# Altium integrated library NSC Analog.IntLib: 134 symbols (part 3 of 4)
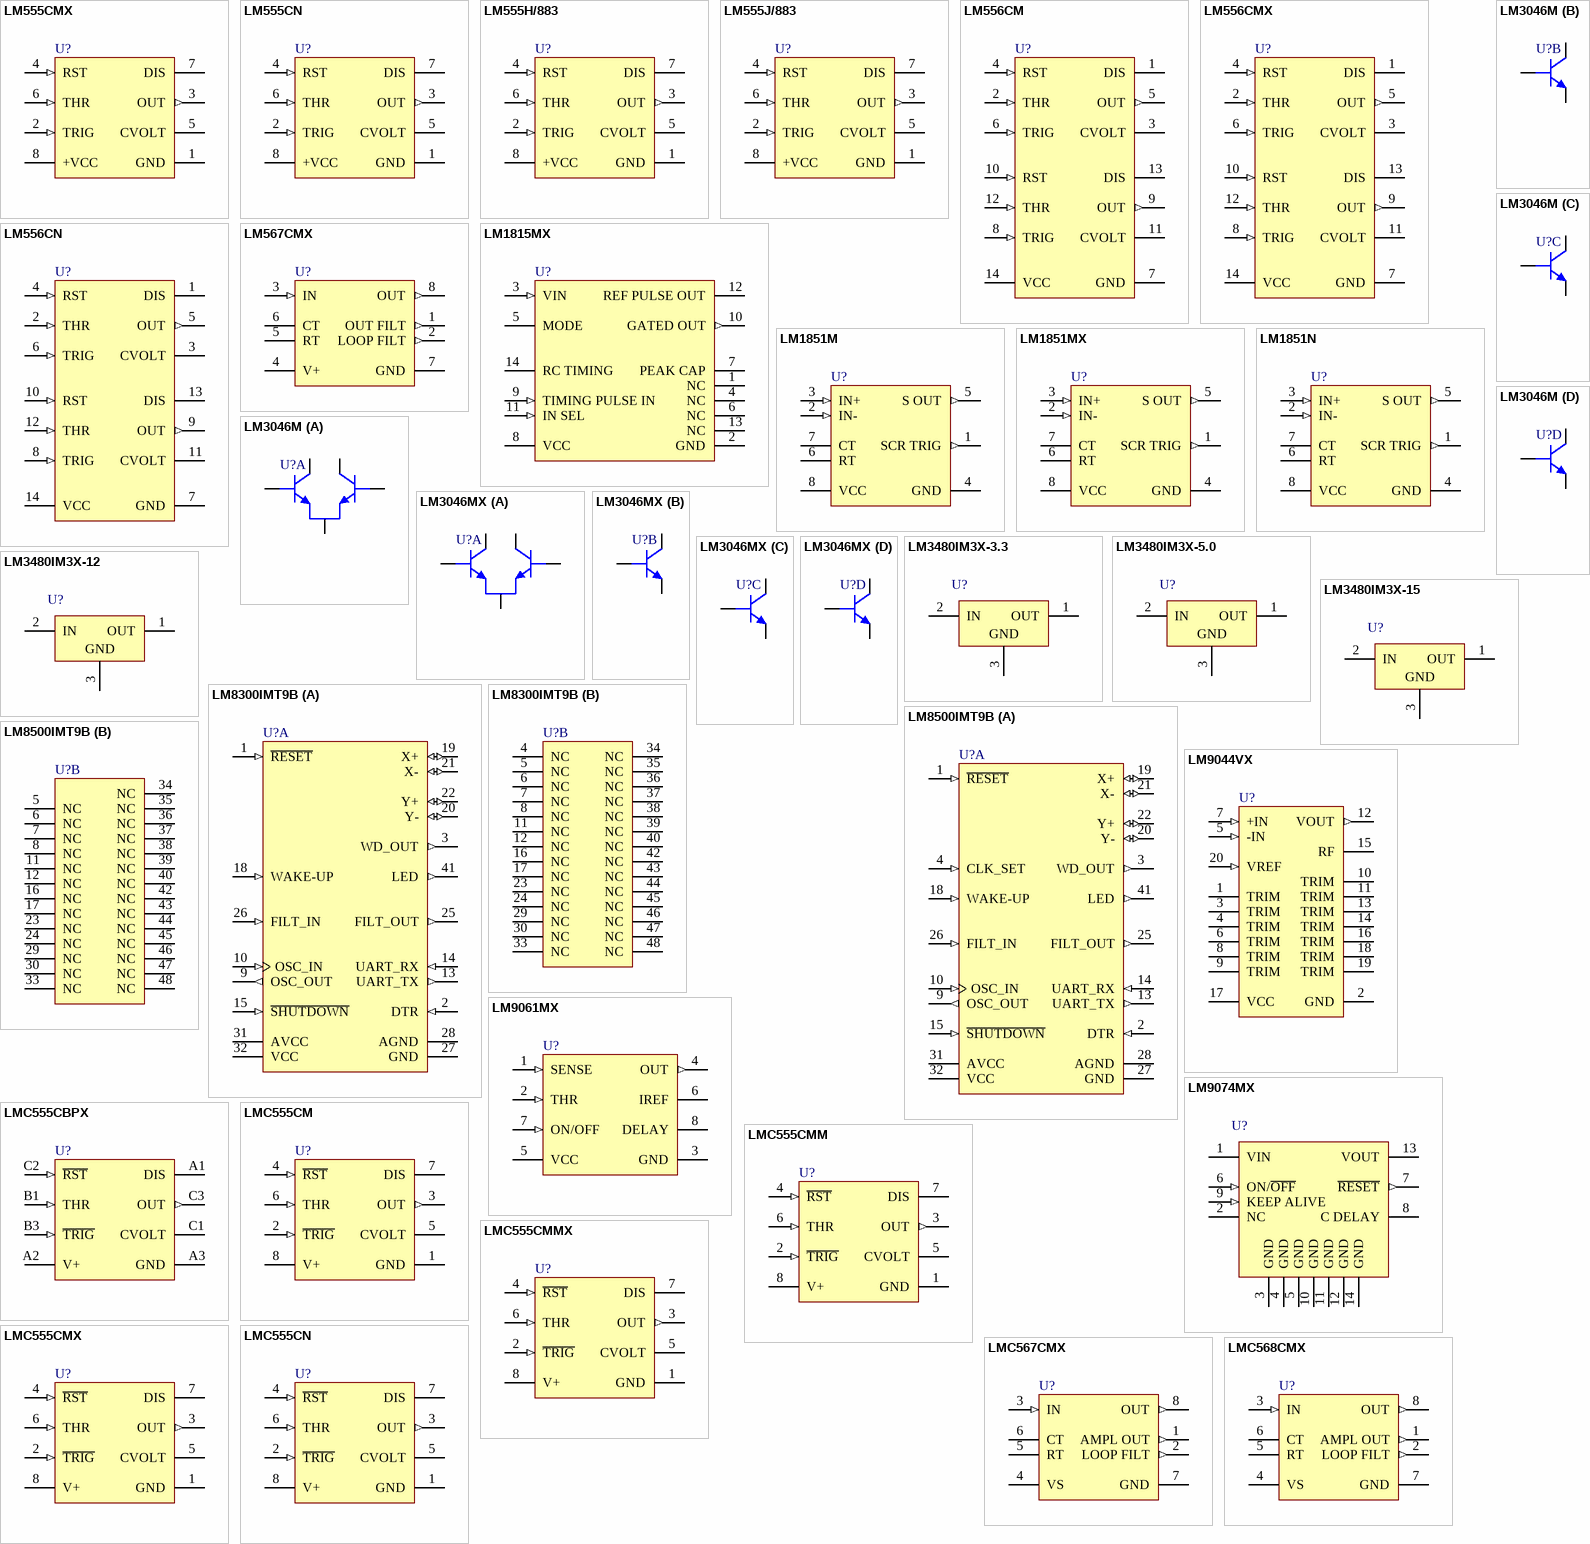
[diagram p8: symbols LM555CMX to LMC568CMX]

## LMC555CM
designator U?
CMOS Timer; PartNumber: LMC555CM; Manufacturer: National Semiconductor; CompType: Analog IC; PackageTopMarking: NSZXTT*LMC*555CM; Published: 4-Dec-2008; DatasheetVersion: May-2006; PackageVersion: revL, Sep-2006; PackageReference: M08A; Publisher: Altium Limited; PackageDescription: SOIC Narrow, 4.9 x 3.9 x 1.45mm, 8 Lead, 1.27mm Pitch; PinCount: 8; DigiKeyPartNumber: LMC555CM-ND; Code_JEDEC: MS-012-AA; Code_IPC: SOIC127P600-8; ComponentLink1Description: LMC555 Datasheet; ComponentLink1URL: http://www.national.com/ds.cgi/LM/LMC555.pdf; ComponentLink2Description: LMC555 Web Page; ComponentLink2URL: http://www.national.com/pf/LM/LMC555.html; ComponentLink3Description: M08A package page; ComponentLink3URL: http://www.national.com/packaging/folders/m08a.html
footprint M08A_N (SOIC, 8-Leads, Body 4.9x3.9mm, Pitch 1.27mm, IPC Medium Density)
footprint M08A_L (SOIC, 8-Leads, Body 4.9x3.9mm, Pitch 1.27mm, IPC High Density)
footprint M08A_M (SOIC, 8-Leads, Body 4.9x3.9mm, Pitch 1.27mm, IPC Low Density)
pins: 1 GND (power), 2 ~{TRIG} (in), 3 OUT (out), 4 ~{RST} (in), 5 CVOLT, 6 THR (in), 7 DIS (oc), 8 V+ (power)

## LMC555CMM
designator U?
CMOS Timer; PartNumber: LMC555CMM; Manufacturer: National Semiconductor; CompType: Analog IC; PackageTopMarking: ZXTT*ZC5; Published: 4-Dec-2008; DatasheetVersion: May-2006; PackageVersion: revF, Apr-2008; PackageReference: MUA08A; Publisher: Altium Limited; PackageDescription: MINI SOIC, .118 x .118 x .034in, 8 Lead, .0256in Pitch; PinCount: 8; DigiKeyPartNumber: LMC555CMMCT-ND; Code_JEDEC: MO-187-AA; ComponentLink1Description: LMC555 Datasheet; ComponentLink1URL: http://www.national.com/ds.cgi/LM/LMC555.pdf; ComponentLink2Description: LMC555 Web Page; ComponentLink2URL: http://www.national.com/pf/LM/LMC555.html; ComponentLink3Description: MUA08A package page; ComponentLink3URL: http://www.national.com/packaging/folders/mua08a.html
footprint MUA08A_N (TSOP, 8-Leads, Body 3x3mm, Pitch 0.65mm, IPC Medium Density)
footprint MUA08A_L (TSOP, 8-Leads, Body 3x3mm, Pitch 0.65mm, IPC High Density)
footprint MUA08A_M (TSOP, 8-Leads, Body 3x3mm, Pitch 0.65mm, IPC Low Density)
pins: 1 GND (power), 2 ~{TRIG} (in), 3 OUT (out), 4 ~{RST} (in), 5 CVOLT, 6 THR (in), 7 DIS (oc), 8 V+ (power)

## LMC555CMMX
designator U?
CMOS Timer; PartNumber: LMC555CMMX; Manufacturer: National Semiconductor; CompType: Analog IC; PackageTopMarking: ZXTT*ZC5; Published: 4-Dec-2008; DatasheetVersion: May-2006; PackageVersion: revF, Apr-2008; PackageReference: MUA08A; Publisher: Altium Limited; PackageDescription: MINI SOIC, .118 x .118 x .034in, 8 Lead, .0256in Pitch; PinCount: 8; DigiKeyPartNumber: LMC555CMMX-ND; Code_JEDEC: MO-187-AA; ComponentLink1Description: LMC555 Datasheet; ComponentLink1URL: http://www.national.com/ds.cgi/LM/LMC555.pdf; ComponentLink2Description: LMC555 Web Page; ComponentLink2URL: http://www.national.com/pf/LM/LMC555.html; ComponentLink3Description: MUA08A package page; ComponentLink3URL: http://www.national.com/packaging/folders/mua08a.html
footprint MUA08A_N (TSOP, 8-Leads, Body 3x3mm, Pitch 0.65mm, IPC Medium Density)
footprint MUA08A_L (TSOP, 8-Leads, Body 3x3mm, Pitch 0.65mm, IPC High Density)
footprint MUA08A_M (TSOP, 8-Leads, Body 3x3mm, Pitch 0.65mm, IPC Low Density)
pins: 1 GND (power), 2 ~{TRIG} (in), 3 OUT (out), 4 ~{RST} (in), 5 CVOLT, 6 THR (in), 7 DIS (oc), 8 V+ (power)

## LMC555CMX
designator U?
CMOS Timer; PartNumber: LMC555CMX; Manufacturer: National Semiconductor; CompType: Analog IC; PackageTopMarking: NSZXTT*LMC*555CM; Published: 4-Dec-2008; DatasheetVersion: May-2006; PackageVersion: revL, Sep-2006; PackageReference: M08A; Publisher: Altium Limited; PackageDescription: SOIC Narrow, 4.9 x 3.9 x 1.45mm, 8 Lead, 1.27mm Pitch; PinCount: 8; DigiKeyPartNumber: LMC555CMXCT-ND; Code_JEDEC: MS-012-AA; Code_IPC: SOIC127P600-8; ComponentLink1Description: LMC555 Datasheet; ComponentLink1URL: http://www.national.com/ds.cgi/LM/LMC555.pdf; ComponentLink2Description: LMC555 Web Page; ComponentLink2URL: http://www.national.com/pf/LM/LMC555.html; ComponentLink3Description: M08A package page; ComponentLink3URL: http://www.national.com/packaging/folders/m08a.html
footprint M08A_N (SOIC, 8-Leads, Body 4.9x3.9mm, Pitch 1.27mm, IPC Medium Density)
footprint M08A_L (SOIC, 8-Leads, Body 4.9x3.9mm, Pitch 1.27mm, IPC High Density)
footprint M08A_M (SOIC, 8-Leads, Body 4.9x3.9mm, Pitch 1.27mm, IPC Low Density)
pins: 1 GND (power), 2 ~{TRIG} (in), 3 OUT (out), 4 ~{RST} (in), 5 CVOLT, 6 THR (in), 7 DIS (oc), 8 V+ (power)

## LMC555CN
designator U?
CMOS Timer; PartNumber: LMC555CN; Manufacturer: National Semiconductor; CompType: Analog IC; PackageTopMarking: NSUZXYTT*LMC*555CN; Published: 4-Dec-2008; DatasheetVersion: May-2006; PackageVersion: revG, May-2006; PackageReference: N08E; Publisher: Altium Limited; PackageDescription: MDIP, .365 x .250 x .130in, 8 Lead, .100in Pitch; PinCount: 8; DigiKeyPartNumber: LMC555CN-ND; Code_JEDEC: MS-001-BA; ComponentLink1Description: LMC555 Datasheet; ComponentLink1URL: http://www.national.com/ds.cgi/LM/LMC555.pdf; ComponentLink2Description: LMC555 Web Page; ComponentLink2URL: http://www.national.com/pf/LM/LMC555.html; ComponentLink3Description: N08E package page; ComponentLink3URL: http://www.national.com/packaging/folders/n08e.html
footprint N08E (DIP, 8-Leads, Row Spacing 7.62mm, Pitch 2.54mm, Body 9.91x6.35mm)
pins: 1 GND (power), 2 ~{TRIG} (in), 3 OUT (out), 4 ~{RST} (in), 5 CVOLT, 6 THR (in), 7 DIS (oc), 8 V+ (power)

## LMC567CMX
designator U?
Low Power Tone Decoder; PartNumber: LMC567CMX; Manufacturer: National Semiconductor; CompType: Analog IC; PackageTopMarking: NSZXTT*LMC*567CM; Published: 4-Dec-2008; DatasheetVersion: Jun-1999; PackageVersion: revL, Sep-2006; PackageReference: M08A; Publisher: Altium Limited; PackageDescription: SOIC Narrow, 4.9 x 3.9 x 1.45mm, 8 Lead, 1.27mm Pitch; PinCount: 8; DigiKeyPartNumber: LMC567CMXTR-ND; Code_JEDEC: MS-012-AA; Code_IPC: SOIC127P600-8; ComponentLink1Description: LMC567 Datasheet; ComponentLink1URL: http://www.national.com/ds.cgi/LM/LMC567.pdf; ComponentLink2Description: LMC567 Web Page; ComponentLink2URL: http://www.national.com/pf/LM/LMC567.html; ComponentLink3Description: M08A package page; ComponentLink3URL: http://www.national.com/packaging/folders/m08a.html
footprint M08A_N (SOIC, 8-Leads, Body 4.9x3.9mm, Pitch 1.27mm, IPC Medium Density)
footprint M08A_L (SOIC, 8-Leads, Body 4.9x3.9mm, Pitch 1.27mm, IPC High Density)
footprint M08A_M (SOIC, 8-Leads, Body 4.9x3.9mm, Pitch 1.27mm, IPC Low Density)
pins: 1 AMPL OUT (out), 2 LOOP FILT (out), 3 IN (in), 4 VS (power), 5 RT, 6 CT, 7 GND (power), 8 OUT (out)

## LMC568CMX
designator U?
Low Power Phase-Locked Loop; PartNumber: LMC568CMX; Manufacturer: National Semiconductor; CompType: Analog IC; PackageTopMarking: NSZXTT*LMC*568CM; Published: 4-Dec-2008; DatasheetVersion: May-1999; PackageVersion: revL, Sep-2006; PackageReference: M08A; Publisher: Altium Limited; PackageDescription: SOIC Narrow, 4.9 x 3.9 x 1.45mm, 8 Lead, 1.27mm Pitch; PinCount: 8; DigiKeyPartNumber: LMC568CMX-ND; Code_JEDEC: MS-012-AA; Code_IPC: SOIC127P600-8; ComponentLink1Description: LMC568 Datasheet; ComponentLink1URL: http://www.national.com/ds.cgi/LM/LMC568.pdf; ComponentLink2Description: LMC568 Web Page; ComponentLink2URL: http://www.national.com/pf/LM/LMC568.html; ComponentLink3Description: M08A package page; ComponentLink3URL: http://www.national.com/packaging/folders/m08a.html
footprint M08A_N (SOIC, 8-Leads, Body 4.9x3.9mm, Pitch 1.27mm, IPC Medium Density)
footprint M08A_L (SOIC, 8-Leads, Body 4.9x3.9mm, Pitch 1.27mm, IPC High Density)
footprint M08A_M (SOIC, 8-Leads, Body 4.9x3.9mm, Pitch 1.27mm, IPC Low Density)
pins: 1 AMPL OUT (out), 2 LOOP FILT (out), 3 IN (in), 4 VS (power), 5 RT, 6 CT, 7 GND (power), 8 OUT (out)

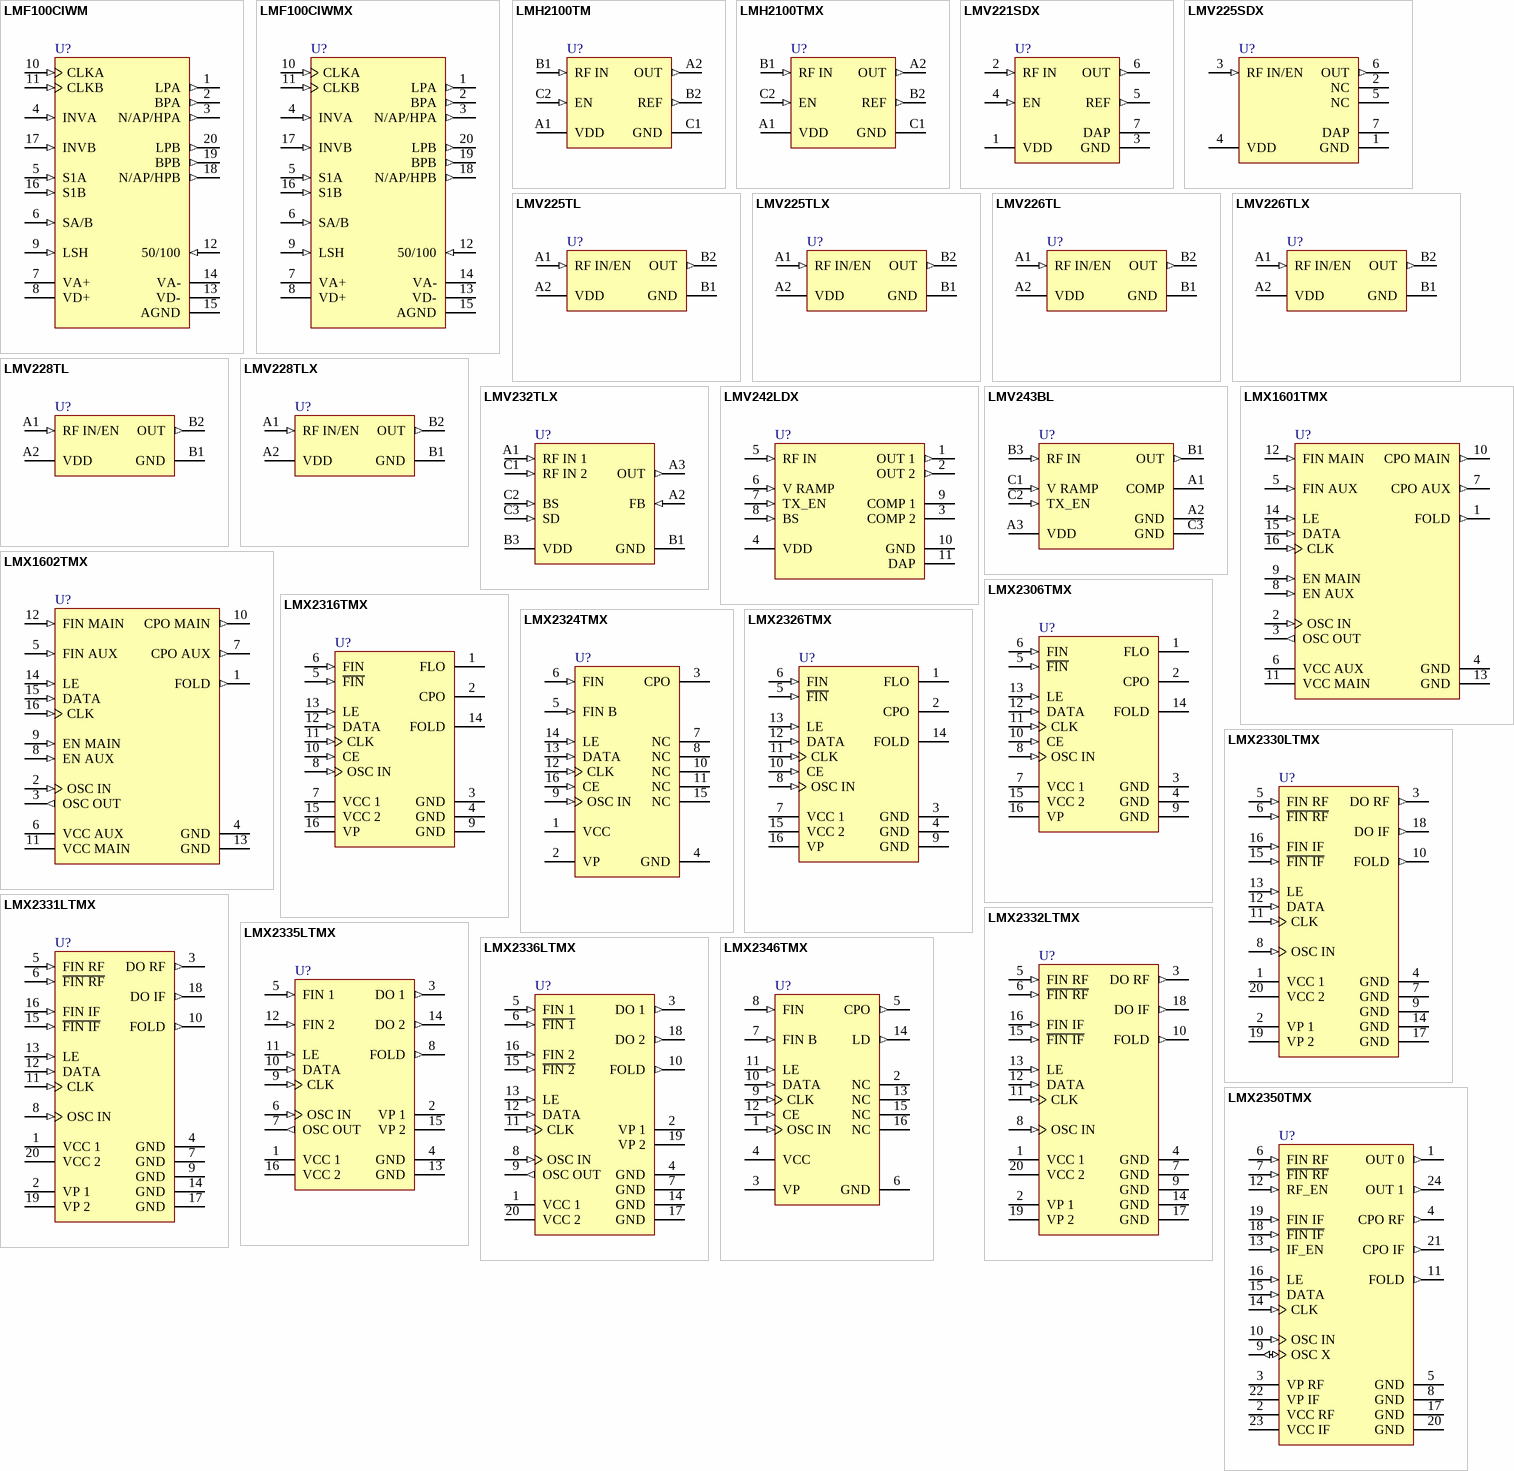
[diagram p4: symbols LMF100CIWM to LMX2350TMX]

## LMF100CIWM
designator U?
High Performance Dual Switched Capacitor Filter; PartNumber: LMF100CIWM; Manufacturer: National Semiconductor; CompType: Analog IC; PackageTopMarking: NSUZXYTT*LMF100*CIWM; Published: 4-Dec-2008; DatasheetVersion: Jul-1999; PackageVersion: revG, Jan-1996; PackageReference: M20B; Publisher: Altium Limited; PackageDescription: Molded Package, S0, .300in Wide, 20 Lead; PinCount: 20; DigiKeyPartNumber: LMF100CIWM-ND; Code_JEDEC: MS-013-AC; Code_IPC: SOIC127P1030-20; ComponentLink1Description: LMF100 Datasheet; ComponentLink1URL: http://www.national.com/ds.cgi/LM/LMF100.pdf; ComponentLink2Description: LMF100 Web Page; ComponentLink2URL: http://www.national.com/pf/LM/LMF100.html; ComponentLink3Description: M20B package page; ComponentLink3URL: http://www.national.com/packaging/folders/m20b.html
footprint M20B_N (SOIC, 20-Leads, Body 12.8x7.5mm, Pitch 1.27mm, IPC Medium Density)
footprint M20B_L (SOIC, 20-Leads, Body 12.8x7.5mm, Pitch 1.27mm, IPC High Density)
footprint M20B_M (SOIC, 20-Leads, Body 12.8x7.5mm, Pitch 1.27mm, IPC Low Density)
pins: 1 LPA (out), 2 BPA (out), 3 N/AP/HPA (out), 4 INVA (in), 5 S1A (in), 6 SA/B (in), 7 VA+ (power), 8 VD+ (power), 9 LSH (in), 10 CLKA (in), 11 CLKB (in), 12 50/100 (in), 13 VD- (power), 14 VA- (power), 15 AGND (power), 16 S1B (in), 17 INVB (in), 18 N/AP/HPB (out), 19 BPB (out), 20 LPB (out)

## LMF100CIWMX
designator U?
High Performance Dual Switched Capacitor Filter; PartNumber: LMF100CIWMX; Manufacturer: National Semiconductor; CompType: Analog IC; PackageTopMarking: NSUZXYTT*LMF100*CIWM; Published: 4-Dec-2008; DatasheetVersion: Jul-1999; PackageVersion: revG, Jan-1996; PackageReference: M20B; Publisher: Altium Limited; PackageDescription: Molded Package, S0, .300in Wide, 20 Lead; PinCount: 20; DigiKeyPartNumber: LMF100CIWMX-ND; Code_JEDEC: MS-013-AC; Code_IPC: SOIC127P1030-20; ComponentLink1Description: LMF100 Datasheet; ComponentLink1URL: http://www.national.com/ds.cgi/LM/LMF100.pdf; ComponentLink2Description: LMF100 Web Page; ComponentLink2URL: http://www.national.com/pf/LM/LMF100.html; ComponentLink3Description: M20B package page; ComponentLink3URL: http://www.national.com/packaging/folders/m20b.html
footprint M20B_N (SOIC, 20-Leads, Body 12.8x7.5mm, Pitch 1.27mm, IPC Medium Density)
footprint M20B_L (SOIC, 20-Leads, Body 12.8x7.5mm, Pitch 1.27mm, IPC High Density)
footprint M20B_M (SOIC, 20-Leads, Body 12.8x7.5mm, Pitch 1.27mm, IPC Low Density)
pins: 1 LPA (out), 2 BPA (out), 3 N/AP/HPA (out), 4 INVA (in), 5 S1A (in), 6 SA/B (in), 7 VA+ (power), 8 VD+ (power), 9 LSH (in), 10 CLKA (in), 11 CLKB (in), 12 50/100 (in), 13 VD- (power), 14 VA- (power), 15 AGND (power), 16 S1B (in), 17 INVB (in), 18 N/AP/HPB (out), 19 BPB (out), 20 LPB (out)

## LMH2100TM
designator U?
50 MHz to 4 GHz 40 dB Logarithmic Power Detector for CDMA and WCDMA; PartNumber: LMH2100TM; Manufacturer: National Semiconductor; CompType: Analog IC; PackageTopMarking: XV*I J; Published: 4-Dec-2008; DatasheetVersion: Mar-2008; PackageVersion: revB; PackageReference: TMD06BBA; Publisher: Altium Limited; PackageDescription: Thin Micro SMD, 6 Bump, 0.4mm Pitch; PinCount: 6; DigiKeyPartNumber: LMH2100TMCT-ND; ComponentLink1Description: LMH2100 Datasheet; ComponentLink1URL: http://www.national.com/ds.cgi/LM/LMH2100.pdf; ComponentLink2Description: LMH2100 Web Page; ComponentLink2URL: http://www.national.com/pf/LM/LMH2100.html
footprint TMD06BBA (Micro SMD, 6-Leads, Body 1.24x0.84mm, Pitch 0.4mm, NSC Recommended)
pins: A1 VDD (power), A2 OUT (out), B1 RF IN (in), B2 REF (out), C1 GND (power), C2 EN (in)

## LMH2100TMX
designator U?
50 MHz to 4 GHz 40 dB Logarithmic Power Detector for CDMA and WCDMA; PartNumber: LMH2100TMX; Manufacturer: National Semiconductor; CompType: Analog IC; PackageTopMarking: XV*I J; Published: 4-Dec-2008; DatasheetVersion: Mar-2008; PackageVersion: revB; PackageReference: TMD06BBA; Publisher: Altium Limited; PackageDescription: Thin Micro SMD, 6 Bump, 0.4mm Pitch; PinCount: 6; DigiKeyPartNumber: LMH2100TMX-ND; ComponentLink1Description: LMH2100 Datasheet; ComponentLink1URL: http://www.national.com/ds.cgi/LM/LMH2100.pdf; ComponentLink2Description: LMH2100 Web Page; ComponentLink2URL: http://www.national.com/pf/LM/LMH2100.html
footprint TMD06BBA (Micro SMD, 6-Leads, Body 1.24x0.84mm, Pitch 0.4mm, NSC Recommended)
pins: A1 VDD (power), A2 OUT (out), B1 RF IN (in), B2 REF (out), C1 GND (power), C2 EN (in)

## LMV221SDX
designator U?
50 MHz to 3.5 GHz 40 dB Logarithmic Power Detector for CDMA and WCDMA; PartNumber: LMV221SDX; Manufacturer: National Semiconductor; CompType: Analog IC; PackageTopMarking: XTT*A96; Published: 4-Dec-2008; DatasheetVersion: Mar-2008; PackageVersion: revA, Nov-2003; PackageReference: SDB06A; Publisher: Altium Limited; PackageDescription: LLP, Plastic, Dual, 2.2 x 2.5 x 0.8mm Body, 6 Lead, 0.65mm Pitch, No Pullback; PinCount: 6; DigiKeyPartNumber: LMV221SDX-ND; ComponentLink1Description: LMV221 Datasheet; ComponentLink1URL: http://www.national.com/ds.cgi/LM/LMV221.pdf; ComponentLink2Description: LMV221 Web Page; ComponentLink2URL: http://www.national.com/pf/LM/LMV221.html; ComponentLink3Description: SDB06A package page; ComponentLink3URL: http://www.national.com/packaging/folders/sdb06a.html
footprint SDB06A (SON, 6-Leads, Body 2.2x2.5mm, Pitch 0.65mm, NSC Recommended (SC-70 Land))
pins: 1 VDD (power), 2 RF IN (in), 3 GND (power), 4 EN (in), 5 REF (out), 6 OUT (out), 7 DAP (power)

## LMV225SDX
designator U?
RF Power Detector for CDMA and WCDMA; PartNumber: LMV225SDX; Manufacturer: National Semiconductor; CompType: Analog IC; PackageTopMarking: XTT*A90; Published: 4-Dec-2008; DatasheetVersion: Oct-2006; PackageVersion: revA, Nov-2003; PackageReference: SDB06A; Publisher: Altium Limited; PackageDescription: LLP, Plastic, Dual, 2.2 x 2.5 x 0.8mm Body, 6 Lead, 0.65mm Pitch, No Pullback; PinCount: 6; DigiKeyPartNumber: LMV225SDX-ND; ComponentLink1Description: LMV225 Datasheet; ComponentLink1URL: http://www.national.com/ds.cgi/LM/LMV225.pdf; ComponentLink2Description: LMV225 Web Page; ComponentLink2URL: http://www.national.com/pf/LM/LMV225.html; ComponentLink3Description: SDB06A package page; ComponentLink3URL: http://www.national.com/packaging/folders/sdb06a.html
footprint SDB06A (SON, 6-Leads, Body 2.2x2.5mm, Pitch 0.65mm, NSC Recommended (SC-70 Land))
pins: 1 GND (power), 2 NC, 3 RF IN/EN (in), 4 VDD (power), 5 NC, 6 OUT (out), 7 DAP (power)

## LMV225TL
designator U?
PartNumber: LMV225TL; Manufacturer: National Semiconductor; CompType: Analog IC; PackageTopMarking: X*I; Published: 4-Dec-2008; DatasheetVersion: Oct-2006; PackageVersion: revD, Mar-2005; PackageReference: TLA04AAA; Publisher: Altium Limited; PackageDescription: Thin Micro SMD, 4 Bump (Large), 0.5mm Pitch; PinCount: 4; DigiKeyPartNumber: LMV225TLCT-ND; Code_JEDEC: MO-211-BA; ComponentLink1Description: LMV225 Datasheet; ComponentLink1URL: http://www.national.com/ds.cgi/LM/LMV225.pdf; ComponentLink2Description: LMV225 Web Page; ComponentLink2URL: http://www.national.com/pf/LM/LMV225.html; ComponentLink3Description: TLA04AAA package page; ComponentLink3URL: http://www.national.com/packaging/folders/tla04aaa.html
footprint TLA04AAA (Micro SMD, 4-Leads, Body 1.01x1.01mm, Pitch 0.5mm, NSC Recommended)
pins: A1 RF IN/EN (in), A2 VDD (power), B1 GND (power), B2 OUT (out)

## LMV225TLX
designator U?
RF Power Detector for CDMA and WCDMA; PartNumber: LMV225TLX; Manufacturer: National Semiconductor; CompType: Analog IC; PackageTopMarking: X*I; Published: 4-Dec-2008; DatasheetVersion: Oct-2006; PackageVersion: revD, Mar-2005; PackageReference: TLA04AAA; Publisher: Altium Limited; PackageDescription: Thin Micro SMD, 4 Bump (Large), 0.5mm Pitch; PinCount: 4; DigiKeyPartNumber: LMV225TLX-ND; Code_JEDEC: MO-211-BA; ComponentLink1Description: LMV225 Datasheet; ComponentLink1URL: http://www.national.com/ds.cgi/LM/LMV225.pdf; ComponentLink2Description: LMV225 Web Page; ComponentLink2URL: http://www.national.com/pf/LM/LMV225.html; ComponentLink3Description: TLA04AAA package page; ComponentLink3URL: http://www.national.com/packaging/folders/tla04aaa.html
footprint TLA04AAA (Micro SMD, 4-Leads, Body 1.01x1.01mm, Pitch 0.5mm, NSC Recommended)
pins: A1 RF IN/EN (in), A2 VDD (power), B1 GND (power), B2 OUT (out)

## LMV226TL
designator U?
RF Power Detector for CDMA and WCDMA; PartNumber: LMV226TL; Manufacturer: National Semiconductor; CompType: Analog IC; PackageTopMarking: X*I; Published: 4-Dec-2008; DatasheetVersion: Oct-2006; PackageVersion: revD, Mar-2005; PackageReference: TLA04AAA; Publisher: Altium Limited; PackageDescription: Thin Micro SMD, 4 Bump (Large), 0.5mm Pitch; PinCount: 4; DigiKeyPartNumber: LMV226TLCT-ND; Code_JEDEC: MO-211-BA; ComponentLink1Description: LMV226 Datasheet; ComponentLink1URL: http://www.national.com/ds.cgi/LM/LMV226.pdf; ComponentLink2Description: LMV226 Web Page; ComponentLink2URL: http://www.national.com/pf/LM/LMV226.html; ComponentLink3Description: TLA04AAA package page; ComponentLink3URL: http://www.national.com/packaging/folders/tla04aaa.html
footprint TLA04AAA (Micro SMD, 4-Leads, Body 1.01x1.01mm, Pitch 0.5mm, NSC Recommended)
pins: A1 RF IN/EN (in), A2 VDD (power), B1 GND (power), B2 OUT (out)

## LMV226TLX
designator U?
RF Power Detector for CDMA and WCDMA; PartNumber: LMV226TLX; Manufacturer: National Semiconductor; CompType: Analog IC; PackageTopMarking: X*I; Published: 4-Dec-2008; DatasheetVersion: Oct-2006; PackageVersion: revD, Mar-2005; PackageReference: TLA04AAA; Publisher: Altium Limited; PackageDescription: Thin Micro SMD, 4 Bump (Large), 0.5mm Pitch; PinCount: 4; DigiKeyPartNumber: LMV226TLX-ND; Code_JEDEC: MO-211-BA; ComponentLink1Description: LMV226 Datasheet; ComponentLink1URL: http://www.national.com/ds.cgi/LM/LMV226.pdf; ComponentLink2Description: LMV226 Web Page; ComponentLink2URL: http://www.national.com/pf/LM/LMV226.html; ComponentLink3Description: TLA04AAA package page; ComponentLink3URL: http://www.national.com/packaging/folders/tla04aaa.html
footprint TLA04AAA (Micro SMD, 4-Leads, Body 1.01x1.01mm, Pitch 0.5mm, NSC Recommended)
pins: A1 RF IN/EN (in), A2 VDD (power), B1 GND (power), B2 OUT (out)

## LMV228TL
designator U?
RF Power Detector for CDMA and WCDMA; PartNumber: LMV228TL; Manufacturer: National Semiconductor; CompType: Analog IC; PackageTopMarking: X*I; Published: 4-Dec-2008; DatasheetVersion: Oct-2006; PackageVersion: revD, Mar-2005; PackageReference: TLA04AAA; Publisher: Altium Limited; PackageDescription: Thin Micro SMD, 4 Bump (Large), 0.5mm Pitch; PinCount: 4; DigiKeyPartNumber: LMV228TLCT-ND; Code_JEDEC: MO-211-BA; ComponentLink1Description: LMV228 Datasheet; ComponentLink1URL: http://www.national.com/ds.cgi/LM/LMV228.pdf; ComponentLink2Description: LMV228 Web Page; ComponentLink2URL: http://www.national.com/pf/LM/LMV228.html; ComponentLink3Description: TLA04AAA package page; ComponentLink3URL: http://www.national.com/packaging/folders/tla04aaa.html
footprint TLA04AAA (Micro SMD, 4-Leads, Body 1.01x1.01mm, Pitch 0.5mm, NSC Recommended)
pins: A1 RF IN/EN (in), A2 VDD (power), B1 GND (power), B2 OUT (out)

## LMV228TLX
designator U?
RF Power Detector for CDMA and WCDMA; PartNumber: LMV228TLX; Manufacturer: National Semiconductor; CompType: Analog IC; PackageTopMarking: X*I; Published: 4-Dec-2008; DatasheetVersion: Oct-2006; PackageVersion: revD, Mar-2005; PackageReference: TLA04AAA; Publisher: Altium Limited; PackageDescription: Thin Micro SMD, 4 Bump (Large), 0.5mm Pitch; PinCount: 4; DigiKeyPartNumber: LMV228TLX-ND; Code_JEDEC: MO-211-BA; ComponentLink1Description: LMV228 Datasheet; ComponentLink1URL: http://www.national.com/ds.cgi/LM/LMV228.pdf; ComponentLink2Description: LMV228 Web Page; ComponentLink2URL: http://www.national.com/pf/LM/LMV228.html; ComponentLink3Description: TLA04AAA package page; ComponentLink3URL: http://www.national.com/packaging/folders/tla04aaa.html
footprint TLA04AAA (Micro SMD, 4-Leads, Body 1.01x1.01mm, Pitch 0.5mm, NSC Recommended)
pins: A1 RF IN/EN (in), A2 VDD (power), B1 GND (power), B2 OUT (out)

## LMV232TLX
designator U?
Dual-Channel Integrated Mean Square Power Detector for CDMA & WCDMA; PartNumber: LMV232TLX; Manufacturer: National Semiconductor; CompType: Analog IC; PackageTopMarking: XVA*I 02; Published: 4-Dec-2008; DatasheetVersion: Apr-2005; PackageVersion: revC, Jan-2004; PackageReference: TLA08AAA; Publisher: Altium Limited; PackageDescription: Thin Micro SMD, 8 Bump (Large), 0.5mm Pitch; PinCount: 8; DigiKeyPartNumber: LMV232TLX-ND; ComponentLink1Description: LMV232 Datasheet; ComponentLink1URL: http://www.national.com/ds.cgi/LM/LMV232.pdf; ComponentLink2Description: LMV232 Web Page; ComponentLink2URL: http://www.national.com/pf/LM/LMV232.html; ComponentLink3Description: TLA08AAA package page; ComponentLink3URL: http://www.national.com/packaging/folders/tla08aaa.html
footprint TLA08AAA (Micro SMD, 8-Leads, Body 1.52x1.52mm, Pitch 0.5mm, NSC Recommended)
pins: A1 RF IN 1 (in), A2 FB (in), A3 OUT (out), B1 GND (power), B3 VDD (power), C1 RF IN 2 (in), C2 BS (in), C3 SD (in)

## LMV242LDX
designator U?
Dual Output, Quad-Band GSM/GPRS Power Amplifier Controller; PartNumber: LMV242LDX; Manufacturer: National Semiconductor; CompType: Analog IC; PackageTopMarking: ZXYTT*242LD; Published: 4-Dec-2008; DatasheetVersion: Jul-2004; PackageVersion: revB, Jan-2003; PackageReference: LDA10A; Publisher: Altium Limited; PackageDescription: LLP, Plastic, Dual, 3 x 3 x 0.75mm Body, 10 Lead, 0.5mm Pitch; PinCount: 10; DigiKeyPartNumber: LMV242LDX-ND; ComponentLink1Description: LMV242 Datasheet; ComponentLink1URL: http://www.national.com/ds.cgi/LM/LMV242.pdf; ComponentLink2Description: LMV242 Web Page; ComponentLink2URL: http://www.national.com/pf/LM/LMV242.html; ComponentLink3Description: LDA10A package page; ComponentLink3URL: http://www.national.com/packaging/folders/lda10a.html
footprint LDA10A (PSON, 10-Leads, Body 3x3mm, Pitch 0.5mm, NSC Recommended)
pins: 1 OUT 1 (out), 2 OUT 2 (out), 3 COMP 2, 4 VDD (power), 5 RF IN (in), 6 V RAMP (in), 7 TX_EN (in), 8 BS (in), 9 COMP 1, 10 GND (power), 11 DAP (power)

## LMV243BL
designator U?
Single-Channel, Quad-Band GSM Power Controller in micro SMD; PartNumber: LMV243BL; Manufacturer: National Semiconductor; CompType: Analog IC; PackageTopMarking: XVA*I 01; Published: 4-Dec-2008; DatasheetVersion: Feb-2004; PackageVersion: revB, Feb-2002; PackageReference: BLA08AAC; Publisher: Altium Limited; PackageDescription: Micro SMD, 8 Bump (Large), 0.5mm Pitch; PinCount: 8; DigiKeyPartNumber: LMV243BLCT-ND; Code_JEDEC: MO-211-BC; ComponentLink1Description: LMV243 Datasheet; ComponentLink1URL: http://www.national.com/ds.cgi/LM/LMV243.pdf; ComponentLink2Description: LMV243 Web Page; ComponentLink2URL: http://www.national.com/pf/LM/LMV243.html; ComponentLink3Description: BLA08AAC package page; ComponentLink3URL: http://www.national.com/packaging/folders/bla08aac.html
footprint BLA08AAC (Micro SMD, 8-Leads, Body 1.51x1.51mm, Pitch 0.5mm, NSC Recommended)
pins: A1 COMP, A2 GND (power), A3 VDD (power), B1 OUT (out), B3 RF IN (in), C1 V RAMP (in), C2 TX_EN (in), C3 GND (power)

## LMX1601TMX
designator U?
1.1 GHz/500 MHz PLLatinum Low Cost Dual Frequency Synthesizer; PartNumber: LMX1601TMX; Manufacturer: National Semiconductor; CompType: Analog IC; PackageTopMarking: NSUZXYTT*LMX1601*TMDD; Published: 4-Dec-2008; DatasheetVersion: Jun-2005; PackageVersion: revD, Jun-2003; PackageReference: MTC16; Publisher: Altium Limited; PackageDescription: Molded TSSOP, Jedec, 5 x 4.4 x 0.9mm Body, 16 Lead, 0.65mm Pitch; PinCount: 16; DigiKeyPartNumber: LMX1601TMXCT-ND; Code_JEDEC: MO-153-AB; ComponentLink1Description: LMX1601 Datasheet; ComponentLink1URL: http://www.national.com/ds.cgi/LM/LMX1601.pdf; ComponentLink2Description: LMX1601 Web Page; ComponentLink2URL: http://www.national.com/pf/LM/LMX1601.html; ComponentLink3Description: MTC16 package page; ComponentLink3URL: http://www.national.com/packaging/folders/mtc16.html
footprint MTC16_N (TSOP, 16-Leads, Body 5x4.4mm, Pitch 0.65mm, IPC Medium Density)
footprint MTC16_L (TSOP, 16-Leads, Body 5x4.4mm, Pitch 0.65mm, IPC High Density)
footprint MTC16_M (TSOP, 16-Leads, Body 5x4.4mm, Pitch 0.65mm, IPC Low Density)
pins: 1 FOLD (out), 2 OSC IN (in), 3 OSC OUT (out), 4 GND (power), 5 FIN AUX (in), 6 VCC AUX (power), 7 CPO AUX (out), 8 EN AUX (in), 9 EN MAIN (in), 10 CPO MAIN (out), 11 VCC MAIN (power), 12 FIN MAIN (in), 13 GND (power), 14 LE (in), 15 DATA (in), 16 CLK (in)

## LMX1602TMX
designator U?
1.1 GHz/1.1 GHz PLLatinum Low Cost Dual Frequency Synthesizer; PartNumber: LMX1602TMX; Manufacturer: National Semiconductor; CompType: Analog IC; PackageTopMarking: NSUZXYTT*LMX1602*TMDD; Published: 4-Dec-2008; DatasheetVersion: Jun-2005; PackageVersion: revD, Jun-2003; PackageReference: MTC16; Publisher: Altium Limited; PackageDescription: Molded TSSOP, Jedec, 5 x 4.4 x 0.9mm Body, 16 Lead, 0.65mm Pitch; PinCount: 16; DigiKeyPartNumber: LMX1602TMX-ND; Code_JEDEC: MO-153-AB; ComponentLink1Description: LMX1602 Datasheet; ComponentLink1URL: http://www.national.com/ds.cgi/LM/LMX1602.pdf; ComponentLink2Description: LMX1602 Web Page; ComponentLink2URL: http://www.national.com/pf/LM/LMX1602.html; ComponentLink3Description: MTC16 package page; ComponentLink3URL: http://www.national.com/packaging/folders/mtc16.html
footprint MTC16_N (TSOP, 16-Leads, Body 5x4.4mm, Pitch 0.65mm, IPC Medium Density)
footprint MTC16_L (TSOP, 16-Leads, Body 5x4.4mm, Pitch 0.65mm, IPC High Density)
footprint MTC16_M (TSOP, 16-Leads, Body 5x4.4mm, Pitch 0.65mm, IPC Low Density)
pins: 1 FOLD (out), 2 OSC IN (in), 3 OSC OUT (out), 4 GND (power), 5 FIN AUX (in), 6 VCC AUX (power), 7 CPO AUX (out), 8 EN AUX (in), 9 EN MAIN (in), 10 CPO MAIN (out), 11 VCC MAIN (power), 12 FIN MAIN (in), 13 GND (power), 14 LE (in), 15 DATA (in), 16 CLK (in)

## LMX2306TMX
designator U?
550 MHz PLLatinum Low Power Frequency Synthesizer for RF Personal Communications; PartNumber: LMX2306TMX; Manufacturer: National Semiconductor; CompType: Analog IC; PackageTopMarking: NSUZXYTT*LMX2306*TMDD; Published: 4-Dec-2008; DatasheetVersion: Mar-2004; PackageVersion: revD, Jun-2003; PackageReference: MTC16; Publisher: Altium Limited; PackageDescription: Molded TSSOP, Jedec, 5 x 4.4 x 0.9mm Body, 16 Lead, 0.65mm Pitch; PinCount: 16; DigiKeyPartNumber: LMX2306TMXTR-ND; Code_JEDEC: MO-153-AB; ComponentLink1Description: LMX2306 Datasheet; ComponentLink1URL: http://www.national.com/ds.cgi/LM/LMX2306.pdf; ComponentLink2Description: LMX2306 Web Page; ComponentLink2URL: http://www.national.com/pf/LM/LMX2306.html; ComponentLink3Description: MTC16 package page; ComponentLink3URL: http://www.national.com/packaging/folders/mtc16.html
footprint MTC16_N (TSOP, 16-Leads, Body 5x4.4mm, Pitch 0.65mm, IPC Medium Density)
footprint MTC16_L (TSOP, 16-Leads, Body 5x4.4mm, Pitch 0.65mm, IPC High Density)
footprint MTC16_M (TSOP, 16-Leads, Body 5x4.4mm, Pitch 0.65mm, IPC Low Density)
pins: 1 FLO (hiz), 2 CPO (hiz), 3 GND (power), 4 GND (power), 5 ~{FIN} (in), 6 FIN (in), 7 VCC 1 (power), 8 OSC IN (in), 9 GND (power), 10 CE (in), 11 CLK (in), 12 DATA (in), 13 LE (in), 14 FOLD (hiz), 15 VCC 2 (power), 16 VP (power)

## LMX2316TMX
designator U?
1.2 GHz PLLatinum Low Power Frequency Synthesizer for RF Personal Communications; PartNumber: LMX2316TMX; Manufacturer: National Semiconductor; CompType: Analog IC; PackageTopMarking: NSUZXYTT*LMX2316*TMDD; Published: 4-Dec-2008; DatasheetVersion: Mar-2004; PackageVersion: revD, Jun-2003; PackageReference: MTC16; Publisher: Altium Limited; PackageDescription: Molded TSSOP, Jedec, 5 x 4.4 x 0.9mm Body, 16 Lead, 0.65mm Pitch; PinCount: 16; DigiKeyPartNumber: LMX2316TMX-ND; Code_JEDEC: MO-153-AB; ComponentLink1Description: LMX2316 Datasheet; ComponentLink1URL: http://www.national.com/ds.cgi/LM/LMX2316.pdf; ComponentLink2Description: LMX2316 Web Page; ComponentLink2URL: http://www.national.com/pf/LM/LMX2316.html; ComponentLink3Description: MTC16 package page; ComponentLink3URL: http://www.national.com/packaging/folders/mtc16.html
footprint MTC16_N (TSOP, 16-Leads, Body 5x4.4mm, Pitch 0.65mm, IPC Medium Density)
footprint MTC16_L (TSOP, 16-Leads, Body 5x4.4mm, Pitch 0.65mm, IPC High Density)
footprint MTC16_M (TSOP, 16-Leads, Body 5x4.4mm, Pitch 0.65mm, IPC Low Density)
pins: 1 FLO (hiz), 2 CPO (hiz), 3 GND (power), 4 GND (power), 5 ~{FIN} (in), 6 FIN (in), 7 VCC 1 (power), 8 OSC IN (in), 9 GND (power), 10 CE (in), 11 CLK (in), 12 DATA (in), 13 LE (in), 14 FOLD (hiz), 15 VCC 2 (power), 16 VP (power)

## LMX2324TMX
designator U?
PLLatinum 2.0 GHz Frequency Synthesizer for RF Personal Communications; PartNumber: LMX2324TMX; Manufacturer: National Semiconductor; CompType: Analog IC; PackageTopMarking: NSUZXYTT*LMX2324*TMDD; Published: 4-Dec-2008; DatasheetVersion: Mar-2001; PackageVersion: revD, Jun-2003; PackageReference: MTC16; Publisher: Altium Limited; PackageDescription: Molded TSSOP, Jedec, 5 x 4.4 x 0.9mm Body, 16 Lead, 0.65mm Pitch; PinCount: 16; DigiKeyPartNumber: LMX2324TMX-ND; Code_JEDEC: MO-153-AB; ComponentLink1Description: LMX2324 Datasheet; ComponentLink1URL: http://www.national.com/ds.cgi/LM/LMX2324.pdf; ComponentLink2Description: LMX2324 Web Page; ComponentLink2URL: http://www.national.com/pf/LM/LMX2324.html; ComponentLink3Description: MTC16 package page; ComponentLink3URL: http://www.national.com/packaging/folders/mtc16.html
footprint MTC16_N (TSOP, 16-Leads, Body 5x4.4mm, Pitch 0.65mm, IPC Medium Density)
footprint MTC16_L (TSOP, 16-Leads, Body 5x4.4mm, Pitch 0.65mm, IPC High Density)
footprint MTC16_M (TSOP, 16-Leads, Body 5x4.4mm, Pitch 0.65mm, IPC Low Density)
pins: 1 VCC (power), 2 VP (power), 3 CPO (hiz), 4 GND (power), 5 FIN B (in), 6 FIN (in), 7 NC, 8 NC, 9 OSC IN (in), 10 NC, 11 NC, 12 CLK (in), 13 DATA (in), 14 LE (in), 15 NC, 16 CE (in)

## LMX2326TMX
designator U?
2.8 GHz PLLatinum Low Power Frequency Synthesizer for RF Personal Communications; PartNumber: LMX2326TMX; Manufacturer: National Semiconductor; CompType: Analog IC; PackageTopMarking: NSUZXYTT*LMX2326*TMDD; Published: 4-Dec-2008; DatasheetVersion: Mar-2004; PackageVersion: revD, Jun-2003; PackageReference: MTC16; Publisher: Altium Limited; PackageDescription: Molded TSSOP, Jedec, 5 x 4.4 x 0.9mm Body, 16 Lead, 0.65mm Pitch; PinCount: 16; DigiKeyPartNumber: LMX2326TMX-ND; Code_JEDEC: MO-153-AB; ComponentLink1Description: LMX2326 Datasheet; ComponentLink1URL: http://www.national.com/ds.cgi/LM/LMX2326.pdf; ComponentLink2Description: LMX2326 Web Page; ComponentLink2URL: http://www.national.com/pf/LM/LMX2326.html; ComponentLink3Description: MTC16 package page; ComponentLink3URL: http://www.national.com/packaging/folders/mtc16.html
footprint MTC16_N (TSOP, 16-Leads, Body 5x4.4mm, Pitch 0.65mm, IPC Medium Density)
footprint MTC16_L (TSOP, 16-Leads, Body 5x4.4mm, Pitch 0.65mm, IPC High Density)
footprint MTC16_M (TSOP, 16-Leads, Body 5x4.4mm, Pitch 0.65mm, IPC Low Density)
pins: 1 FLO (hiz), 2 CPO (hiz), 3 GND (power), 4 GND (power), 5 ~{FIN} (in), 6 FIN (in), 7 VCC 1 (power), 8 OSC IN (in), 9 GND (power), 10 CE (in), 11 CLK (in), 12 DATA (in), 13 LE (in), 14 FOLD (hiz), 15 VCC 2 (power), 16 VP (power)

## LMX2330LTMX
designator U?
2.5 GHz/510 MHz PLLatinum Low Power Dual Frequency Synthesizer for RF Personal Communications; PartNumber: LMX2330LTMX; Manufacturer: National Semiconductor; CompType: Analog IC; PackageTopMarking: NSUZXYTT*LMX2330*LTMDD; Published: 4-Dec-2008; DatasheetVersion: Oct-2001; PackageVersion: revE, Mar-2003; PackageReference: MTC20; Publisher: Altium Limited; PackageDescription: Molded TSSOP, Jedec, 6.5 x 4.4 x 0.9mm Body, 20 Lead, 0.65mm Pitch; PinCount: 20; DigiKeyPartNumber: LMX2330LTMX-ND; Code_JEDEC: MO-153-AC; ComponentLink1Description: LMX2330L Datasheet; ComponentLink1URL: http://www.national.com/ds.cgi/LM/LMX2330L.pdf; ComponentLink2Description: LMX2330L Web Page; ComponentLink2URL: http://www.national.com/pf/LM/LMX2330L.html; ComponentLink3Description: MTC20 package page; ComponentLink3URL: http://www.national.com/packaging/folders/mtc20.html
footprint MTC20_N (TSOP, 20-Leads, Body 6.5x4.4mm, Pitch 0.65mm, IPC Medium Density)
footprint MTC20_L (TSOP, 20-Leads, Body 6.5x4.4mm, Pitch 0.65mm, IPC High Density)
footprint MTC20_M (TSOP, 20-Leads, Body 6.5x4.4mm, Pitch 0.65mm, IPC Low Density)
pins: 1 VCC 1 (power), 2 VP 1 (power), 3 DO RF (out), 4 GND (power), 5 FIN RF (in), 6 ~{FIN RF} (in), 7 GND (power), 8 OSC IN (in), 9 GND (power), 10 FOLD (out), 11 CLK (in), 12 DATA (in), 13 LE (in), 14 GND (power), 15 ~{FIN IF} (in), 16 FIN IF (in), 17 GND (power), 18 DO IF (out), 19 VP 2 (power), 20 VCC 2 (power)

## LMX2331LTMX
designator U?
2.0 GHz/510 MHz PLLatinum Low Power Dual Frequency Synthesizer for RF Personal Communications; PartNumber: LMX2331LTMX; Manufacturer: National Semiconductor; CompType: Analog IC; PackageTopMarking: NSUZXYTT*LMX2331*LTMDD; Published: 4-Dec-2008; DatasheetVersion: Oct-2001; PackageVersion: revE, Mar-2003; PackageReference: MTC20; Publisher: Altium Limited; PackageDescription: Molded TSSOP, Jedec, 6.5 x 4.4 x 0.9mm Body, 20 Lead, 0.65mm Pitch; PinCount: 20; DigiKeyPartNumber: LMX2331LTMX-ND; Code_JEDEC: MO-153-AC; ComponentLink1Description: LMX2331L Datasheet; ComponentLink1URL: http://www.national.com/ds.cgi/LM/LMX2331L.pdf; ComponentLink2Description: LMX2331L Web Page; ComponentLink2URL: http://www.national.com/pf/LM/LMX2331L.html; ComponentLink3Description: MTC20 package page; ComponentLink3URL: http://www.national.com/packaging/folders/mtc20.html
footprint MTC20_N (TSOP, 20-Leads, Body 6.5x4.4mm, Pitch 0.65mm, IPC Medium Density)
footprint MTC20_L (TSOP, 20-Leads, Body 6.5x4.4mm, Pitch 0.65mm, IPC High Density)
footprint MTC20_M (TSOP, 20-Leads, Body 6.5x4.4mm, Pitch 0.65mm, IPC Low Density)
pins: 1 VCC 1 (power), 2 VP 1 (power), 3 DO RF (out), 4 GND (power), 5 FIN RF (in), 6 ~{FIN RF} (in), 7 GND (power), 8 OSC IN (in), 9 GND (power), 10 FOLD (out), 11 CLK (in), 12 DATA (in), 13 LE (in), 14 GND (power), 15 ~{FIN IF} (in), 16 FIN IF (in), 17 GND (power), 18 DO IF (out), 19 VP 2 (power), 20 VCC 2 (power)

## LMX2332LTMX
designator U?
1.2 GHz/510 MHz PLLatinum Low Power Dual Frequency Synthesizer for RF Personal Communications; PartNumber: LMX2332LTMX; Manufacturer: National Semiconductor; CompType: Analog IC; PackageTopMarking: NSUZXYTT*LMX2332*LTMDD; Published: 4-Dec-2008; DatasheetVersion: Oct-2001; PackageVersion: revE, Mar-2003; PackageReference: MTC20; Publisher: Altium Limited; PackageDescription: Molded TSSOP, Jedec, 6.5 x 4.4 x 0.9mm Body, 20 Lead, 0.65mm Pitch; PinCount: 20; DigiKeyPartNumber: LMX2332LTMX-ND; Code_JEDEC: MO-153-AC; ComponentLink1Description: LMX2332L Datasheet; ComponentLink1URL: http://www.national.com/ds.cgi/LM/LMX2332L.pdf; ComponentLink2Description: LMX2332L Web Page; ComponentLink2URL: http://www.national.com/pf/LM/LMX2332L.html; ComponentLink3Description: MTC20 package page; ComponentLink3URL: http://www.national.com/packaging/folders/mtc20.html
footprint MTC20_N (TSOP, 20-Leads, Body 6.5x4.4mm, Pitch 0.65mm, IPC Medium Density)
footprint MTC20_L (TSOP, 20-Leads, Body 6.5x4.4mm, Pitch 0.65mm, IPC High Density)
footprint MTC20_M (TSOP, 20-Leads, Body 6.5x4.4mm, Pitch 0.65mm, IPC Low Density)
pins: 1 VCC 1 (power), 2 VP 1 (power), 3 DO RF (out), 4 GND (power), 5 FIN RF (in), 6 ~{FIN RF} (in), 7 GND (power), 8 OSC IN (in), 9 GND (power), 10 FOLD (out), 11 CLK (in), 12 DATA (in), 13 LE (in), 14 GND (power), 15 ~{FIN IF} (in), 16 FIN IF (in), 17 GND (power), 18 DO IF (out), 19 VP 2 (power), 20 VCC 2 (power)

## LMX2335LTMX
designator U?
1.1 GHz/1.1 GHz PLLatinum Low Power Dual Frequency Synthesizer for RF Personal Communications; PartNumber: LMX2335LTMX; Manufacturer: National Semiconductor; CompType: Analog IC; PackageTopMarking: NSUZXYTT*LMX2335*LTMDD; Published: 4-Dec-2008; DatasheetVersion: Feb-2001; PackageVersion: revD, Jun-2003; PackageReference: MTC16; Publisher: Altium Limited; PackageDescription: Molded TSSOP, Jedec, 5 x 4.4 x 0.9mm Body, 16 Lead, 0.65mm Pitch; PinCount: 16; DigiKeyPartNumber: LMX2335LTMXCT-ND; Code_JEDEC: MO-153-AB; ComponentLink1Description: LMX2335L Datasheet; ComponentLink1URL: http://www.national.com/ds.cgi/LM/LMX2335L.pdf; ComponentLink2Description: LMX2335L Web Page; ComponentLink2URL: http://www.national.com/pf/LM/LMX2335L.html; ComponentLink3Description: MTC16 package page; ComponentLink3URL: http://www.national.com/packaging/folders/mtc16.html
footprint MTC16_N (TSOP, 16-Leads, Body 5x4.4mm, Pitch 0.65mm, IPC Medium Density)
footprint MTC16_L (TSOP, 16-Leads, Body 5x4.4mm, Pitch 0.65mm, IPC High Density)
footprint MTC16_M (TSOP, 16-Leads, Body 5x4.4mm, Pitch 0.65mm, IPC Low Density)
pins: 1 VCC 1 (power), 2 VP 1 (power), 3 DO 1 (out), 4 GND (power), 5 FIN 1 (in), 6 OSC IN (in), 7 OSC OUT (out), 8 FOLD (out), 9 CLK (in), 10 DATA (in), 11 LE (in), 12 FIN 2 (in), 13 GND (power), 14 DO 2 (out), 15 VP 2 (power), 16 VCC 2 (power)

## LMX2336LTMX
designator U?
2.0 GHz/1.1 GHz PLLatinum Low Power Dual Frequency Synthesizer for RF Personal Communications; PartNumber: LMX2336LTMX; Manufacturer: National Semiconductor; CompType: Analog IC; PackageTopMarking: NSUZXYTT*LMX2336*LTMDD; Published: 4-Dec-2008; DatasheetVersion: Feb-2001; PackageVersion: revE, Mar-2003; PackageReference: MTC20; Publisher: Altium Limited; PackageDescription: Molded TSSOP, Jedec, 6.5 x 4.4 x 0.9mm Body, 20 Lead, 0.65mm Pitch; PinCount: 20; DigiKeyPartNumber: LMX2336LTMX-ND; Code_JEDEC: MO-153-AC; ComponentLink1Description: LMX2336L Datasheet; ComponentLink1URL: http://www.national.com/ds.cgi/LM/LMX2336L.pdf; ComponentLink2Description: LMX2336L Web Page; ComponentLink2URL: http://www.national.com/pf/LM/LMX2336L.html; ComponentLink3Description: MTC20 package page; ComponentLink3URL: http://www.national.com/packaging/folders/mtc20.html
footprint MTC20_N (TSOP, 20-Leads, Body 6.5x4.4mm, Pitch 0.65mm, IPC Medium Density)
footprint MTC20_L (TSOP, 20-Leads, Body 6.5x4.4mm, Pitch 0.65mm, IPC High Density)
footprint MTC20_M (TSOP, 20-Leads, Body 6.5x4.4mm, Pitch 0.65mm, IPC Low Density)
pins: 1 VCC 1 (power), 2 VP 1 (power), 3 DO 1 (out), 4 GND (power), 5 FIN 1 (in), 6 ~{FIN 1} (in), 7 GND (power), 8 OSC IN (in), 9 OSC OUT (out), 10 FOLD (out), 11 CLK (in), 12 DATA (in), 13 LE (in), 14 GND (power), 15 ~{FIN 2} (in), 16 FIN 2 (in), 17 GND (power), 18 DO 2 (out), 19 VP 2 (power), 20 VCC 2 (power)

## LMX2346TMX
designator U?
2.0 GHz PLLatinum Frequency Synthesizer for RF Personal Communications; PartNumber: LMX2346TMX; Manufacturer: National Semiconductor; CompType: Analog IC; PackageTopMarking: NSUZXYTT*LMX2346*TMDD; Published: 4-Dec-2008; DatasheetVersion: Jun-2004; PackageVersion: revD, Jun-2003; PackageReference: MTC16; Publisher: Altium Limited; PackageDescription: Molded TSSOP, Jedec, 5 x 4.4 x 0.9mm Body, 16 Lead, 0.65mm Pitch; PinCount: 16; DigiKeyPartNumber: LMX2346TMX-ND; Code_JEDEC: MO-153-AB; ComponentLink1Description: LMX2346 Datasheet; ComponentLink1URL: http://www.national.com/ds.cgi/LM/LMX2346.pdf; ComponentLink2Description: LMX2346 Web Page; ComponentLink2URL: http://www.national.com/pf/LM/LMX2346.html; ComponentLink3Description: MTC16 package page; ComponentLink3URL: http://www.national.com/packaging/folders/mtc16.html
footprint MTC16_N (TSOP, 16-Leads, Body 5x4.4mm, Pitch 0.65mm, IPC Medium Density)
footprint MTC16_L (TSOP, 16-Leads, Body 5x4.4mm, Pitch 0.65mm, IPC High Density)
footprint MTC16_M (TSOP, 16-Leads, Body 5x4.4mm, Pitch 0.65mm, IPC Low Density)
pins: 1 OSC IN (in), 2 NC, 3 VP (power), 4 VCC (power), 5 CPO (out), 6 GND (power), 7 FIN B (in), 8 FIN (in), 9 CLK (in), 10 DATA (in), 11 LE (in), 12 CE (in), 13 NC, 14 LD (out), 15 NC, 16 NC

## LMX2350TMX
designator U?
2.5 GHz/550 MHz PLLatinum Fractional N RF / Integer N IF Dual Low Power Frequency Synthesizer; PartNumber: LMX2350TMX; Manufacturer: National Semiconductor; CompType: Analog IC; PackageTopMarking: NSUZXYTT*LMX2350*TMDD; Published: 4-Dec-2008; DatasheetVersion: Mar-2001; PackageVersion: revE, Mar-2003; PackageReference: MTC24; Publisher: Altium Limited; PackageDescription: Molded TSSOP, Jedec, 7.8 x 4.4 x 0.9mm Body, 24 Lead, 0.65mm Pitch; PinCount: 24; DigiKeyPartNumber: LMX2350TMX-ND; Code_JEDEC: MO-153-AD; ComponentLink1Description: LMX2350 Datasheet; ComponentLink1URL: http://www.national.com/ds.cgi/LM/LMX2350.pdf; ComponentLink2Description: LMX2350 Web Page; ComponentLink2URL: http://www.national.com/pf/LM/LMX2350.html; ComponentLink3Description: MTC24 package page; ComponentLink3URL: http://www.national.com/packaging/folders/mtc24.html
footprint MTC24_N (TSOP, 24-Leads, Body 7.8x4.4mm, Pitch 0.65mm, IPC Medium Density)
footprint MTC24_L (TSOP, 24-Leads, Body 7.8x4.4mm, Pitch 0.65mm, IPC High Density)
footprint MTC24_M (TSOP, 24-Leads, Body 7.8x4.4mm, Pitch 0.65mm, IPC Low Density)
pins: 1 OUT 0 (out), 2 VCC RF (power), 3 VP RF (power), 4 CPO RF (out), 5 GND (power), 6 FIN RF (in), 7 ~{FIN RF} (in), 8 GND (power), 9 OSC X (io), 10 OSC IN (in), 11 FOLD (out), 12 RF_EN (in), 13 IF_EN (in), 14 CLK (in), 15 DATA (in), 16 LE (in), 17 GND (power), 18 ~{FIN IF} (in), 19 FIN IF (in), 20 GND (power), 21 CPO IF (out), 22 VP IF (power), 23 VCC IF (power), 24 OUT 1 (out)

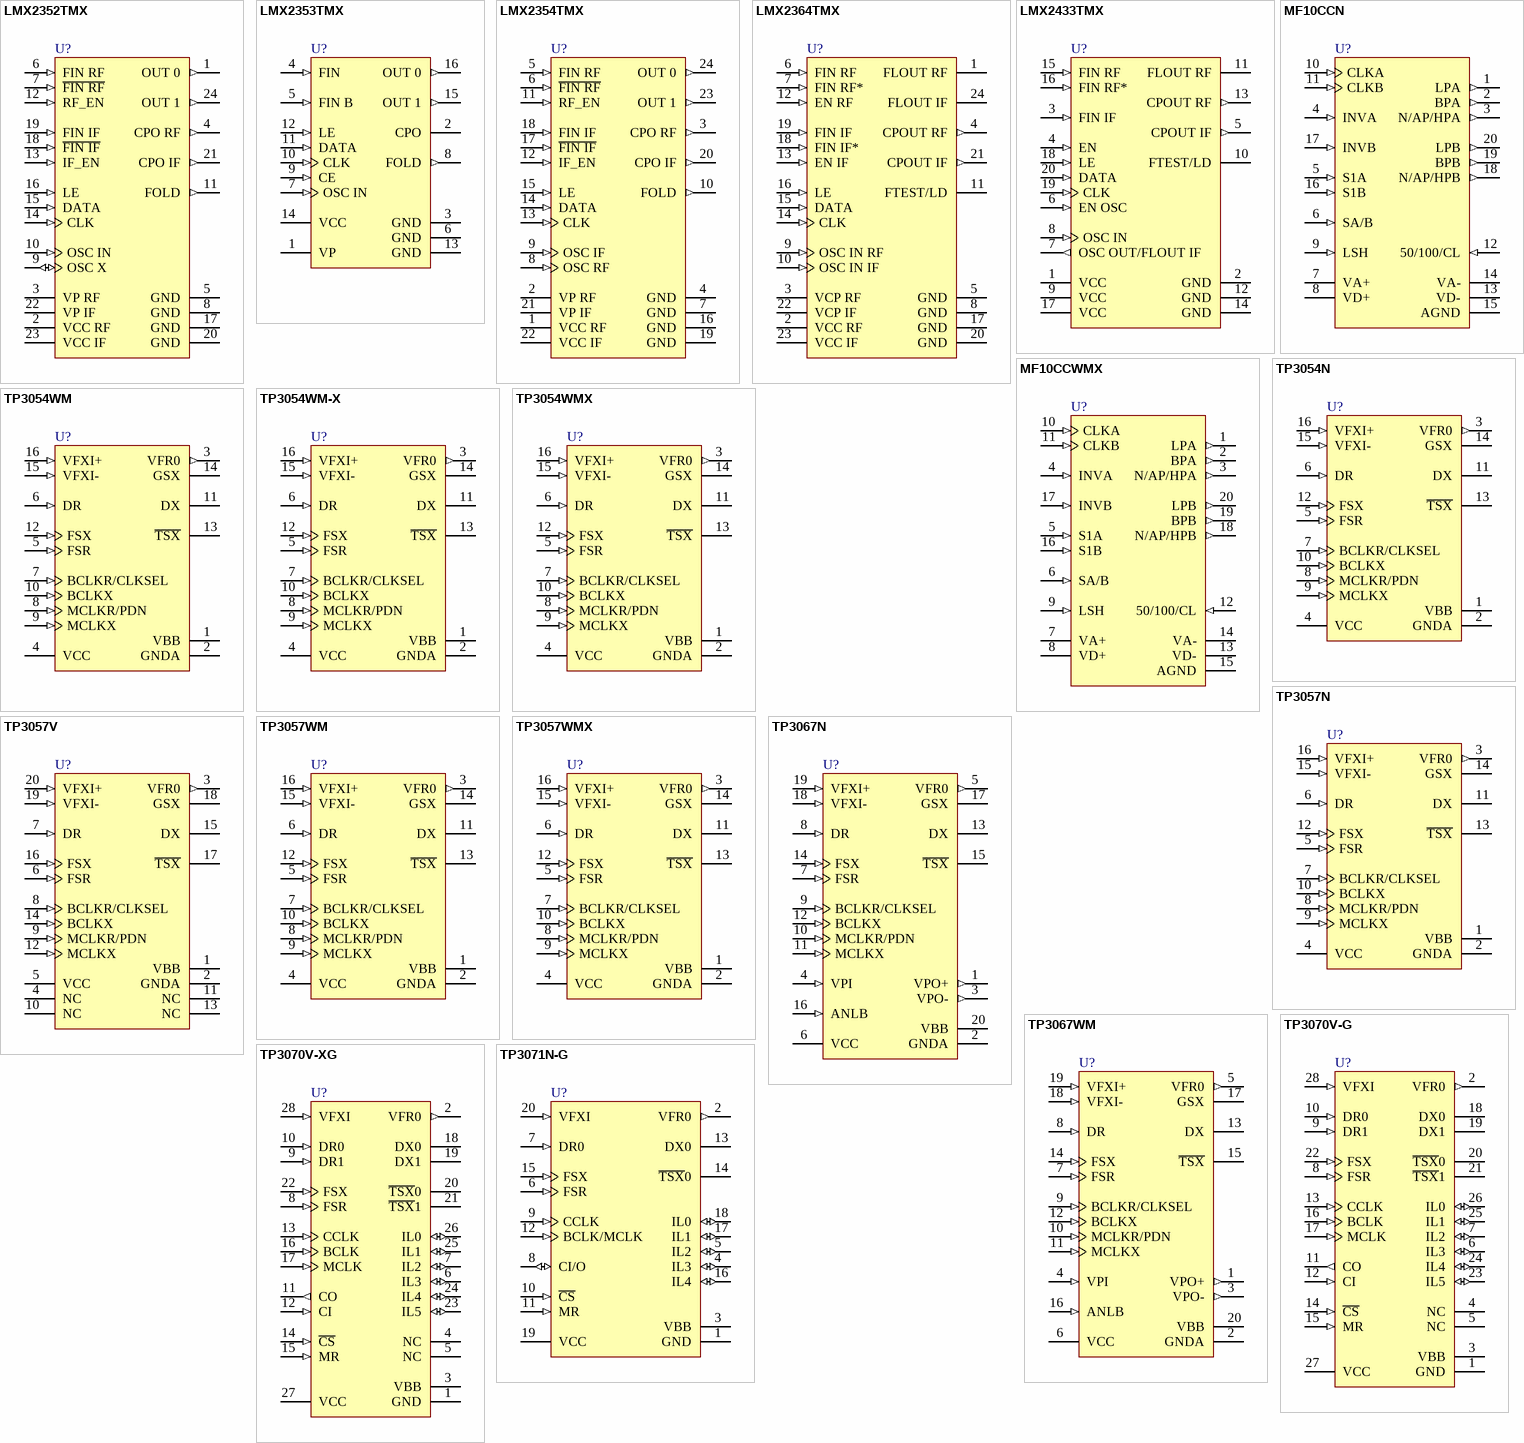
[diagram p5: symbols LMX2352TMX to TP3071N-G]

## LMX2352TMX
designator U?
1.2 GHz/550 MHz PLLatinum Fractional N RF / Integer N IF Dual Low Power Frequency Synthesizer; PartNumber: LMX2352TMX; Manufacturer: National Semiconductor; CompType: Analog IC; PackageTopMarking: NSUZXYTT*LMX2352*TMDD; Published: 4-Dec-2008; DatasheetVersion: Mar-2001; PackageVersion: revE, Mar-2003; PackageReference: MTC24; Publisher: Altium Limited; PackageDescription: Molded TSSOP, Jedec, 7.8 x 4.4 x 0.9mm Body, 24 Lead, 0.65mm Pitch; PinCount: 24; DigiKeyPartNumber: LMX2352TMXCT-ND; Code_JEDEC: MO-153-AD; ComponentLink1Description: LMX2352 Datasheet; ComponentLink1URL: http://www.national.com/ds.cgi/LM/LMX2352.pdf; ComponentLink2Description: LMX2352 Web Page; ComponentLink2URL: http://www.national.com/pf/LM/LMX2352.html; ComponentLink3Description: MTC24 package page; ComponentLink3URL: http://www.national.com/packaging/folders/mtc24.html
footprint MTC24_N (TSOP, 24-Leads, Body 7.8x4.4mm, Pitch 0.65mm, IPC Medium Density)
footprint MTC24_L (TSOP, 24-Leads, Body 7.8x4.4mm, Pitch 0.65mm, IPC High Density)
footprint MTC24_M (TSOP, 24-Leads, Body 7.8x4.4mm, Pitch 0.65mm, IPC Low Density)
pins: 1 OUT 0 (out), 2 VCC RF (power), 3 VP RF (power), 4 CPO RF (out), 5 GND (power), 6 FIN RF (in), 7 ~{FIN RF} (in), 8 GND (power), 9 OSC X (io), 10 OSC IN (in), 11 FOLD (out), 12 RF_EN (in), 13 IF_EN (in), 14 CLK (in), 15 DATA (in), 16 LE (in), 17 GND (power), 18 ~{FIN IF} (in), 19 FIN IF (in), 20 GND (power), 21 CPO IF (out), 22 VP IF (power), 23 VCC IF (power), 24 OUT 1 (out)

## LMX2353TMX
designator U?
PLLatinum Fractional N Single 2.5 GHz Low Power Frequency Synthesizer; PartNumber: LMX2353TMX; Manufacturer: National Semiconductor; CompType: Analog IC; PackageTopMarking: NSUZXYTT*LMX2353*TMDD; Published: 4-Dec-2008; DatasheetVersion: Jan-2001; PackageVersion: revD, Jun-2003; PackageReference: MTC16; Publisher: Altium Limited; PackageDescription: Molded TSSOP, Jedec, 5 x 4.4 x 0.9mm Body, 16 Lead, 0.65mm Pitch; PinCount: 16; DigiKeyPartNumber: LMX2353TMX-ND; Code_JEDEC: MO-153-AB; ComponentLink1Description: LMX2353 Datasheet; ComponentLink1URL: http://www.national.com/ds.cgi/LM/LMX2353.pdf; ComponentLink2Description: LMX2353 Web Page; ComponentLink2URL: http://www.national.com/pf/LM/LMX2353.html; ComponentLink3Description: MTC16 package page; ComponentLink3URL: http://www.national.com/packaging/folders/mtc16.html
footprint MTC16_N (TSOP, 16-Leads, Body 5x4.4mm, Pitch 0.65mm, IPC Medium Density)
footprint MTC16_L (TSOP, 16-Leads, Body 5x4.4mm, Pitch 0.65mm, IPC High Density)
footprint MTC16_M (TSOP, 16-Leads, Body 5x4.4mm, Pitch 0.65mm, IPC Low Density)
pins: 1 VP (power), 2 CPO (hiz), 3 GND (power), 4 FIN (in), 5 FIN B (in), 6 GND (power), 7 OSC IN (in), 8 FOLD (out), 9 CE (in), 10 CLK (in), 11 DATA (in), 12 LE (in), 13 GND (power), 14 VCC (power), 15 OUT 1 (out), 16 OUT 0 (out)

## LMX2354TMX
designator U?
2.5 GHz/550 MHz PLLatinum Fractional N RF/ Integer N IF Dual Low Power Frequency Synthesizer; PartNumber: LMX2354TMX; Manufacturer: National Semiconductor; CompType: Analog IC; PackageTopMarking: NSUZXYTT*LMX2354*TMDD; Published: 4-Dec-2008; DatasheetVersion: Aug-2001; PackageVersion: revE, Mar-2003; PackageReference: MTC24; Publisher: Altium Limited; PackageDescription: Molded TSSOP, Jedec, 7.8 x 4.4 x 0.9mm Body, 24 Lead, 0.65mm Pitch; PinCount: 24; DigiKeyPartNumber: LMX2354TMX-ND; Code_JEDEC: MO-153-AD; ComponentLink1Description: LMX2354 Datasheet; ComponentLink1URL: http://www.national.com/ds.cgi/LM/LMX2354.pdf; ComponentLink2Description: LMX2354 Web Page; ComponentLink2URL: http://www.national.com/pf/LM/LMX2354.html; ComponentLink3Description: MTC24 package page; ComponentLink3URL: http://www.national.com/packaging/folders/mtc24.html
footprint MTC24_N (TSOP, 24-Leads, Body 7.8x4.4mm, Pitch 0.65mm, IPC Medium Density)
footprint MTC24_L (TSOP, 24-Leads, Body 7.8x4.4mm, Pitch 0.65mm, IPC High Density)
footprint MTC24_M (TSOP, 24-Leads, Body 7.8x4.4mm, Pitch 0.65mm, IPC Low Density)
pins: 1 VCC RF (power), 2 VP RF (power), 3 CPO RF (out), 4 GND (power), 5 FIN RF (in), 6 ~{FIN RF} (in), 7 GND (power), 8 OSC RF (in), 9 OSC IF (in), 10 FOLD (out), 11 RF_EN (in), 12 IF_EN (in), 13 CLK (in), 14 DATA (in), 15 LE (in), 16 GND (power), 17 ~{FIN IF} (in), 18 FIN IF (in), 19 GND (power), 20 CPO IF (out), 21 VP IF (power), 22 VCC IF (power), 23 OUT 1 (out), 24 OUT 0 (out)

## LMX2364TMX
designator U?
2.6 GHz PLLatinum Fractional RF Frequency Synthesizer with 850 MHz Integer IF Frequency Synthesizer; PartNumber: LMX2364TMX; Manufacturer: National Semiconductor; CompType: Analog IC; PackageTopMarking: NSUZXYTT*LMX2364TM; Published: 4-Dec-2008; DatasheetVersion: Jul-2003; PackageVersion: revE, Mar-2003; PackageReference: MTC24; Publisher: Altium Limited; PackageDescription: Molded TSSOP, Jedec, 7.8 x 4.4 x 0.9mm Body, 24 Lead, 0.65mm Pitch; PinCount: 24; DigiKeyPartNumber: LMX2364TMX-ND; Code_JEDEC: MO-153-AD; ComponentLink1Description: LMX2364 Datasheet; ComponentLink1URL: http://www.national.com/ds.cgi/LM/LMX2364.pdf; ComponentLink2Description: LMX2364 Web Page; ComponentLink2URL: http://www.national.com/pf/LM/LMX2364.html; ComponentLink3Description: MTC24 package page; ComponentLink3URL: http://www.national.com/packaging/folders/mtc24.html
footprint MTC24_N (TSOP, 24-Leads, Body 7.8x4.4mm, Pitch 0.65mm, IPC Medium Density)
footprint MTC24_L (TSOP, 24-Leads, Body 7.8x4.4mm, Pitch 0.65mm, IPC High Density)
footprint MTC24_M (TSOP, 24-Leads, Body 7.8x4.4mm, Pitch 0.65mm, IPC Low Density)
pins: 1 FLOUT RF (hiz), 2 VCC RF (power), 3 VCP RF (power), 4 CPOUT RF (out), 5 GND (power), 6 FIN RF (in), 7 FIN RF* (in), 8 GND (power), 9 OSC IN RF (in), 10 OSC IN IF (in), 11 FTEST/LD (hiz), 12 EN RF (in), 13 EN IF (in), 14 CLK (in), 15 DATA (in), 16 LE (in), 17 GND (power), 18 FIN IF* (in), 19 FIN IF (in), 20 GND (power), 21 CPOUT IF (out), 22 VCP IF (power), 23 VCC IF (power), 24 FLOUT IF (hiz)

## LMX2433TMX
designator U?
3.6 GHz/1.7 GHz PLLatinum Dual High Frequency Synthesizer for RF Personal Communications; PartNumber: LMX2433TMX; Manufacturer: National Semiconductor; CompType: Analog IC; PackageTopMarking: NSUZXYTT*LMX2433*TMDD; Published: 4-Dec-2008; DatasheetVersion: May-2003; PackageVersion: revE, Mar-2003; PackageReference: MTC20; Publisher: Altium Limited; PackageDescription: Molded TSSOP, Jedec, 6.5 x 4.4 x 0.9mm Body, 20 Lead, 0.65mm Pitch; PinCount: 20; DigiKeyPartNumber: LMX2433TMX-ND; Code_JEDEC: MO-153-AC; ComponentLink1Description: LMX2433 Datasheet; ComponentLink1URL: http://www.national.com/ds.cgi/LM/LMX2433.pdf; ComponentLink2Description: LMX2433 Web Page; ComponentLink2URL: http://www.national.com/pf/LM/LMX2433.html; ComponentLink3Description: MTC20 package page; ComponentLink3URL: http://www.national.com/packaging/folders/mtc20.html
footprint MTC20_N (TSOP, 20-Leads, Body 6.5x4.4mm, Pitch 0.65mm, IPC Medium Density)
footprint MTC20_L (TSOP, 20-Leads, Body 6.5x4.4mm, Pitch 0.65mm, IPC High Density)
footprint MTC20_M (TSOP, 20-Leads, Body 6.5x4.4mm, Pitch 0.65mm, IPC Low Density)
pins: 1 VCC (power), 2 GND (power), 3 FIN IF (in), 4 EN (in), 5 CPOUT IF (out), 6 EN OSC (in), 7 OSC OUT/FLOUT IF (out), 8 OSC IN (in), 9 VCC (power), 10 FTEST/LD (hiz), 11 FLOUT RF (hiz), 12 GND (power), 13 CPOUT RF (out), 14 GND (power), 15 FIN RF (in), 16 FIN RF* (in), 17 VCC (power), 18 LE (in), 19 CLK (in), 20 DATA (in)

## MF10CCN
designator U?
Universal Monolithic Dual Switched Capacitor Filter; PartNumber: MF10CCN; Manufacturer: National Semiconductor; CompType: Analog IC; PackageTopMarking: NSUZXYYTTE#*MF10CCN; Published: 4-Dec-2008; DatasheetVersion: May-2001; PackageVersion: revG, Nov-1984; PackageReference: N20A; Publisher: Altium Limited; PackageDescription: Molded Dip (N) 20 Lead; PinCount: 20; DigiKeyPartNumber: MF10CCN-ND; Code_JEDEC: MS-001-AD; ComponentLink1Description: MF10 Datasheet; ComponentLink1URL: http://www.national.com/ds.cgi/MF/MF10.pdf; ComponentLink2Description: MF10 Web Page; ComponentLink2URL: http://www.national.com/pf/MF/MF10.html; ComponentLink3Description: N20A package page; ComponentLink3URL: http://www.national.com/packaging/folders/n20a.html
footprint N20A (DIP, 20-Leads, Row Spacing 7.62mm, Pitch 2.54mm, Body 26.07x6.6mm)
pins: 1 LPA (out), 2 BPA (out), 3 N/AP/HPA (out), 4 INVA (in), 5 S1A (in), 6 SA/B (in), 7 VA+ (power), 8 VD+ (power), 9 LSH (in), 10 CLKA (in), 11 CLKB (in), 12 50/100/CL (in), 13 VD- (power), 14 VA- (power), 15 AGND (power), 16 S1B (in), 17 INVB (in), 18 N/AP/HPB (out), 19 BPB (out), 20 LPB (out)